# Altium integrated library TPS763.IntLib: 57 symbols
Pins are listed as number, name and electrical type; pins without a type are passive.

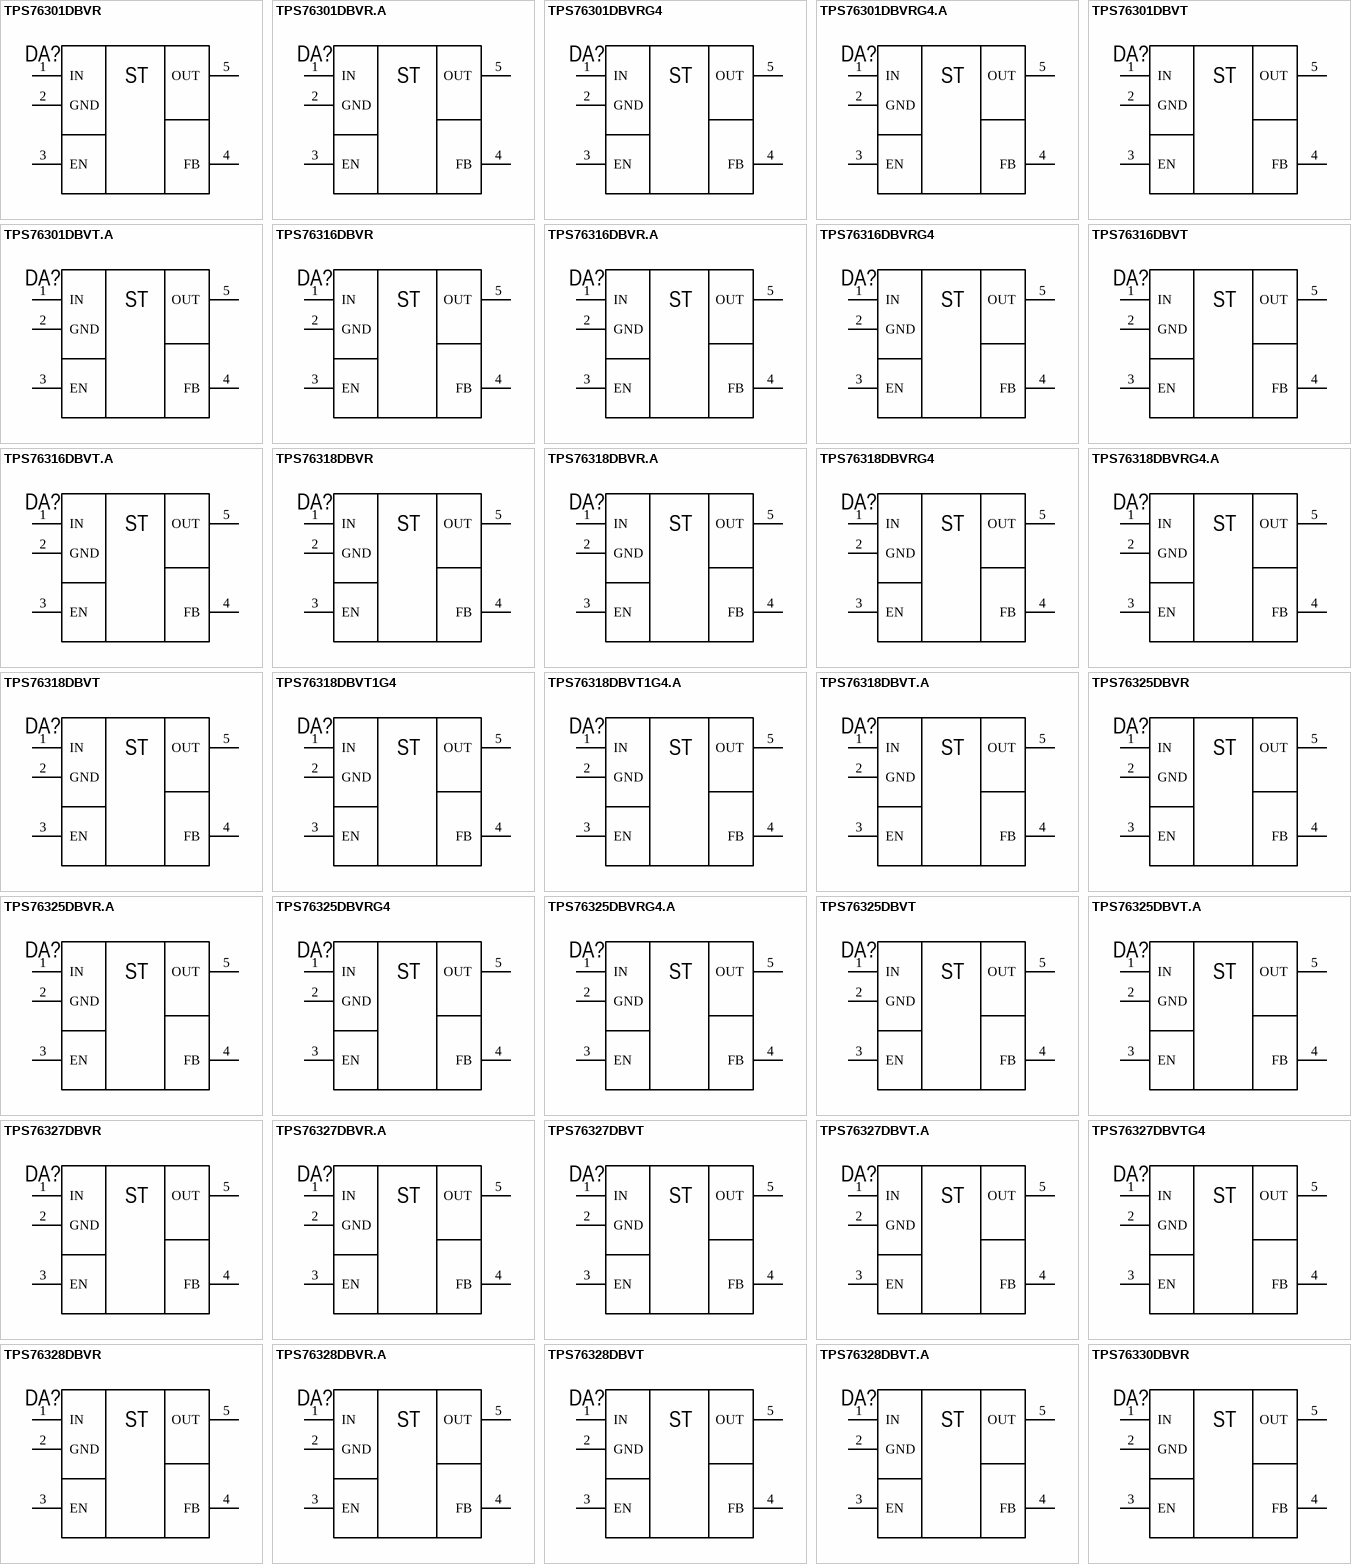
[diagram p0: symbols TPS76301DBVR to TPS76330DBVR]

## TPS76301DBVR
designator DA?  (value not drawn)
150mA, 10V, Low-Dropout Voltage Regulator
footprint DBV0005A (SOT-23, 5-Leads, Body 3.00x1.75 mm, IPC Medium Density)
pins: 1 IN, 2 GND, 3 EN, 4 FB, 5 OUT
text: ST

## TPS76301DBVR.A
designator DA?  (value not drawn)
150mA, 10V, Low-Dropout Voltage Regulator
footprint DBV0005A (SOT-23, 5-Leads, Body 3.00x1.75 mm, IPC Medium Density)
pins: 1 IN, 2 GND, 3 EN, 4 FB, 5 OUT
text: ST

## TPS76301DBVRG4
designator DA?  (value not drawn)
150mA, 10V, Low-Dropout Voltage Regulator
footprint DBV0005A (SOT-23, 5-Leads, Body 3.00x1.75 mm, IPC Medium Density)
pins: 1 IN, 2 GND, 3 EN, 4 FB, 5 OUT
text: ST

## TPS76301DBVRG4.A
designator DA?  (value not drawn)
150mA, 10V, Low-Dropout Voltage Regulator
footprint DBV0005A (SOT-23, 5-Leads, Body 3.00x1.75 mm, IPC Medium Density)
pins: 1 IN, 2 GND, 3 EN, 4 FB, 5 OUT
text: ST

## TPS76301DBVT
designator DA?  (value not drawn)
150mA, 10V, Low-Dropout Voltage Regulator
footprint DBV0005A (SOT-23, 5-Leads, Body 3.00x1.75 mm, IPC Medium Density)
pins: 1 IN, 2 GND, 3 EN, 4 FB, 5 OUT
text: ST

## TPS76301DBVT.A
designator DA?  (value not drawn)
150mA, 10V, Low-Dropout Voltage Regulator
footprint DBV0005A (SOT-23, 5-Leads, Body 3.00x1.75 mm, IPC Medium Density)
pins: 1 IN, 2 GND, 3 EN, 4 FB, 5 OUT
text: ST

## TPS76316DBVR
designator DA?  (value not drawn)
150mA, 10V, Low-Dropout Voltage Regulator
footprint DBV0005A (SOT-23, 5-Leads, Body 3.00x1.75 mm, IPC Medium Density)
pins: 1 IN, 2 GND, 3 EN, 4 FB, 5 OUT
text: ST

## TPS76316DBVR.A
designator DA?  (value not drawn)
150mA, 10V, Low-Dropout Voltage Regulator
footprint DBV0005A (SOT-23, 5-Leads, Body 3.00x1.75 mm, IPC Medium Density)
pins: 1 IN, 2 GND, 3 EN, 4 FB, 5 OUT
text: ST

## TPS76316DBVRG4
designator DA?  (value not drawn)
150mA, 10V, Low-Dropout Voltage Regulator
footprint DBV0005A (SOT-23, 5-Leads, Body 3.00x1.75 mm, IPC Medium Density)
pins: 1 IN, 2 GND, 3 EN, 4 FB, 5 OUT
text: ST

## TPS76316DBVT
designator DA?  (value not drawn)
150mA, 10V, Low-Dropout Voltage Regulator
footprint DBV0005A (SOT-23, 5-Leads, Body 3.00x1.75 mm, IPC Medium Density)
pins: 1 IN, 2 GND, 3 EN, 4 FB, 5 OUT
text: ST

## TPS76316DBVT.A
designator DA?  (value not drawn)
150mA, 10V, Low-Dropout Voltage Regulator
footprint DBV0005A (SOT-23, 5-Leads, Body 3.00x1.75 mm, IPC Medium Density)
pins: 1 IN, 2 GND, 3 EN, 4 FB, 5 OUT
text: ST

## TPS76318DBVR
designator DA?  (value not drawn)
150mA, 10V, Low-Dropout Voltage Regulator
footprint DBV0005A (SOT-23, 5-Leads, Body 3.00x1.75 mm, IPC Medium Density)
pins: 1 IN, 2 GND, 3 EN, 4 FB, 5 OUT
text: ST

## TPS76318DBVR.A
designator DA?  (value not drawn)
150mA, 10V, Low-Dropout Voltage Regulator
footprint DBV0005A (SOT-23, 5-Leads, Body 3.00x1.75 mm, IPC Medium Density)
pins: 1 IN, 2 GND, 3 EN, 4 FB, 5 OUT
text: ST

## TPS76318DBVRG4
designator DA?  (value not drawn)
150mA, 10V, Low-Dropout Voltage Regulator
footprint DBV0005A (SOT-23, 5-Leads, Body 3.00x1.75 mm, IPC Medium Density)
pins: 1 IN, 2 GND, 3 EN, 4 FB, 5 OUT
text: ST

## TPS76318DBVRG4.A
designator DA?  (value not drawn)
150mA, 10V, Low-Dropout Voltage Regulator
footprint DBV0005A (SOT-23, 5-Leads, Body 3.00x1.75 mm, IPC Medium Density)
pins: 1 IN, 2 GND, 3 EN, 4 FB, 5 OUT
text: ST

## TPS76318DBVT
designator DA?  (value not drawn)
150mA, 10V, Low-Dropout Voltage Regulator
footprint DBV0005A (SOT-23, 5-Leads, Body 3.00x1.75 mm, IPC Medium Density)
pins: 1 IN, 2 GND, 3 EN, 4 FB, 5 OUT
text: ST

## TPS76318DBVT1G4
designator DA?  (value not drawn)
150mA, 10V, Low-Dropout Voltage Regulator
footprint DBV0005A (SOT-23, 5-Leads, Body 3.00x1.75 mm, IPC Medium Density)
pins: 1 IN, 2 GND, 3 EN, 4 FB, 5 OUT
text: ST

## TPS76318DBVT1G4.A
designator DA?  (value not drawn)
150mA, 10V, Low-Dropout Voltage Regulator
footprint DBV0005A (SOT-23, 5-Leads, Body 3.00x1.75 mm, IPC Medium Density)
pins: 1 IN, 2 GND, 3 EN, 4 FB, 5 OUT
text: ST

## TPS76318DBVT.A
designator DA?  (value not drawn)
150mA, 10V, Low-Dropout Voltage Regulator
footprint DBV0005A (SOT-23, 5-Leads, Body 3.00x1.75 mm, IPC Medium Density)
pins: 1 IN, 2 GND, 3 EN, 4 FB, 5 OUT
text: ST

## TPS76325DBVR
designator DA?  (value not drawn)
150mA, 10V, Low-Dropout Voltage Regulator
footprint DBV0005A (SOT-23, 5-Leads, Body 3.00x1.75 mm, IPC Medium Density)
pins: 1 IN, 2 GND, 3 EN, 4 FB, 5 OUT
text: ST

## TPS76325DBVR.A
designator DA?  (value not drawn)
150mA, 10V, Low-Dropout Voltage Regulator
footprint DBV0005A (SOT-23, 5-Leads, Body 3.00x1.75 mm, IPC Medium Density)
pins: 1 IN, 2 GND, 3 EN, 4 FB, 5 OUT
text: ST

## TPS76325DBVRG4
designator DA?  (value not drawn)
150mA, 10V, Low-Dropout Voltage Regulator
footprint DBV0005A (SOT-23, 5-Leads, Body 3.00x1.75 mm, IPC Medium Density)
pins: 1 IN, 2 GND, 3 EN, 4 FB, 5 OUT
text: ST

## TPS76325DBVRG4.A
designator DA?  (value not drawn)
150mA, 10V, Low-Dropout Voltage Regulator
footprint DBV0005A (SOT-23, 5-Leads, Body 3.00x1.75 mm, IPC Medium Density)
pins: 1 IN, 2 GND, 3 EN, 4 FB, 5 OUT
text: ST

## TPS76325DBVT
designator DA?  (value not drawn)
150mA, 10V, Low-Dropout Voltage Regulator
footprint DBV0005A (SOT-23, 5-Leads, Body 3.00x1.75 mm, IPC Medium Density)
pins: 1 IN, 2 GND, 3 EN, 4 FB, 5 OUT
text: ST

## TPS76325DBVT.A
designator DA?  (value not drawn)
150mA, 10V, Low-Dropout Voltage Regulator
footprint DBV0005A (SOT-23, 5-Leads, Body 3.00x1.75 mm, IPC Medium Density)
pins: 1 IN, 2 GND, 3 EN, 4 FB, 5 OUT
text: ST

## TPS76327DBVR
designator DA?  (value not drawn)
150mA, 10V, Low-Dropout Voltage Regulator
footprint DBV0005A (SOT-23, 5-Leads, Body 3.00x1.75 mm, IPC Medium Density)
pins: 1 IN, 2 GND, 3 EN, 4 FB, 5 OUT
text: ST

## TPS76327DBVR.A
designator DA?  (value not drawn)
150mA, 10V, Low-Dropout Voltage Regulator
footprint DBV0005A (SOT-23, 5-Leads, Body 3.00x1.75 mm, IPC Medium Density)
pins: 1 IN, 2 GND, 3 EN, 4 FB, 5 OUT
text: ST

## TPS76327DBVT
designator DA?  (value not drawn)
150mA, 10V, Low-Dropout Voltage Regulator
footprint DBV0005A (SOT-23, 5-Leads, Body 3.00x1.75 mm, IPC Medium Density)
pins: 1 IN, 2 GND, 3 EN, 4 FB, 5 OUT
text: ST

## TPS76327DBVT.A
designator DA?  (value not drawn)
150mA, 10V, Low-Dropout Voltage Regulator
footprint DBV0005A (SOT-23, 5-Leads, Body 3.00x1.75 mm, IPC Medium Density)
pins: 1 IN, 2 GND, 3 EN, 4 FB, 5 OUT
text: ST

## TPS76327DBVTG4
designator DA?  (value not drawn)
150mA, 10V, Low-Dropout Voltage Regulator
footprint DBV0005A (SOT-23, 5-Leads, Body 3.00x1.75 mm, IPC Medium Density)
pins: 1 IN, 2 GND, 3 EN, 4 FB, 5 OUT
text: ST

## TPS76328DBVR
designator DA?  (value not drawn)
150mA, 10V, Low-Dropout Voltage Regulator
footprint DBV0005A (SOT-23, 5-Leads, Body 3.00x1.75 mm, IPC Medium Density)
pins: 1 IN, 2 GND, 3 EN, 4 FB, 5 OUT
text: ST

## TPS76328DBVR.A
designator DA?  (value not drawn)
150mA, 10V, Low-Dropout Voltage Regulator
footprint DBV0005A (SOT-23, 5-Leads, Body 3.00x1.75 mm, IPC Medium Density)
pins: 1 IN, 2 GND, 3 EN, 4 FB, 5 OUT
text: ST

## TPS76328DBVT
designator DA?  (value not drawn)
150mA, 10V, Low-Dropout Voltage Regulator
footprint DBV0005A (SOT-23, 5-Leads, Body 3.00x1.75 mm, IPC Medium Density)
pins: 1 IN, 2 GND, 3 EN, 4 FB, 5 OUT
text: ST

## TPS76328DBVT.A
designator DA?  (value not drawn)
150mA, 10V, Low-Dropout Voltage Regulator
footprint DBV0005A (SOT-23, 5-Leads, Body 3.00x1.75 mm, IPC Medium Density)
pins: 1 IN, 2 GND, 3 EN, 4 FB, 5 OUT
text: ST

## TPS76330DBVR
designator DA?  (value not drawn)
150mA, 10V, Low-Dropout Voltage Regulator
footprint DBV0005A (SOT-23, 5-Leads, Body 3.00x1.75 mm, IPC Medium Density)
pins: 1 IN, 2 GND, 3 EN, 4 FB, 5 OUT
text: ST

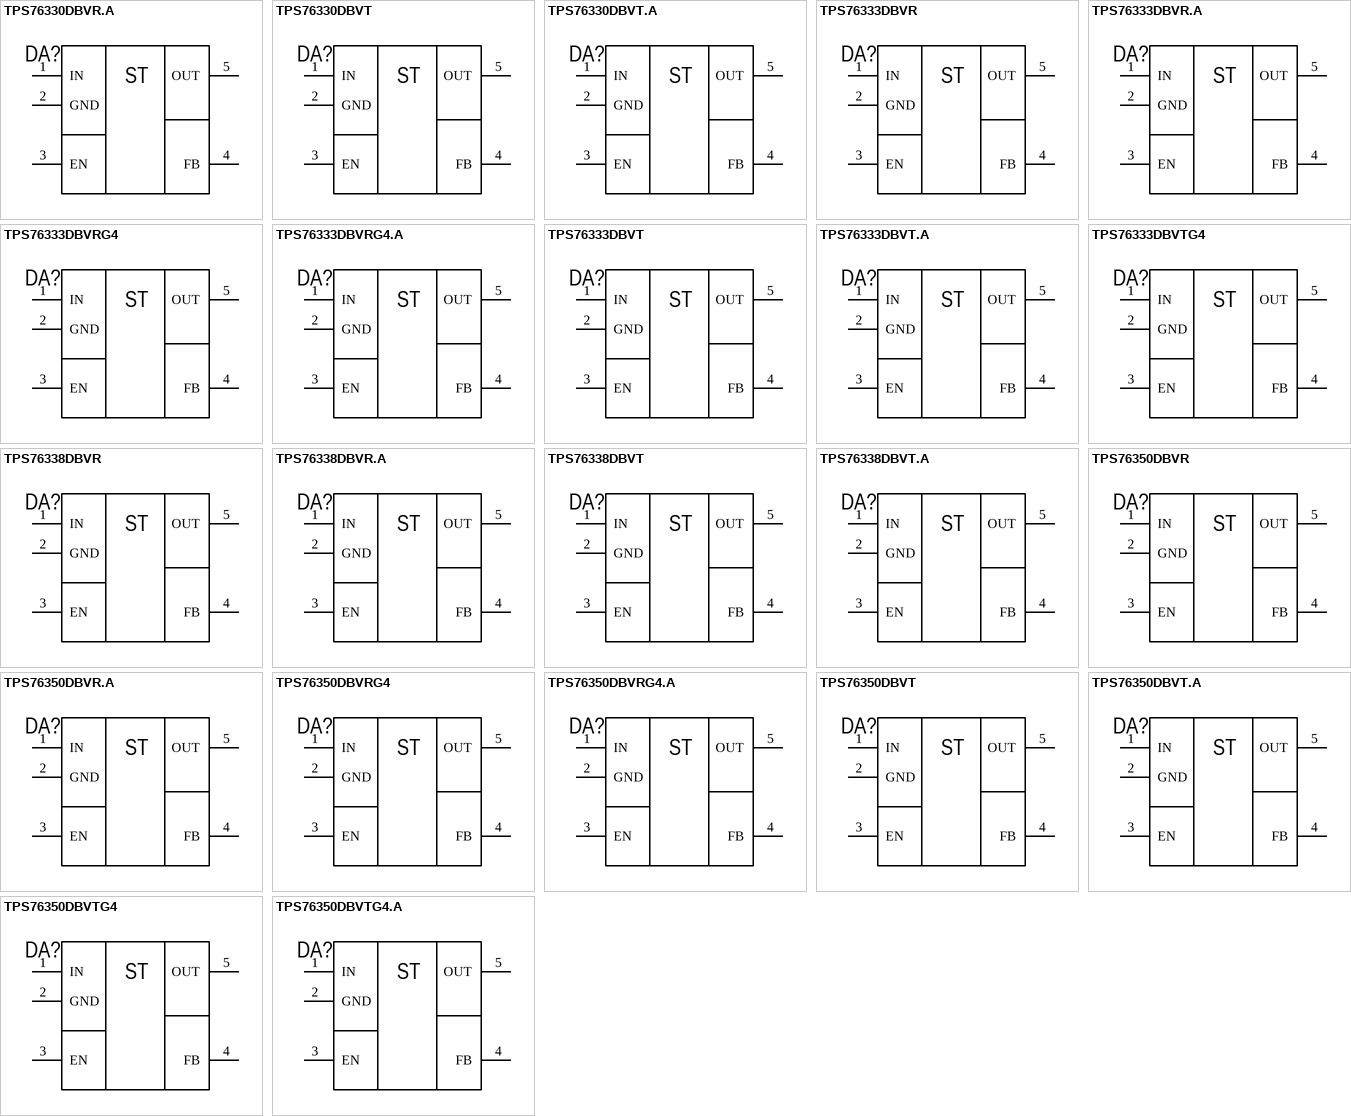
[diagram p1: symbols TPS76330DBVR.A to TPS76350DBVTG4.A]

## TPS76330DBVR.A
designator DA?  (value not drawn)
150mA, 10V, Low-Dropout Voltage Regulator
footprint DBV0005A (SOT-23, 5-Leads, Body 3.00x1.75 mm, IPC Medium Density)
pins: 1 IN, 2 GND, 3 EN, 4 FB, 5 OUT
text: ST

## TPS76330DBVT
designator DA?  (value not drawn)
150mA, 10V, Low-Dropout Voltage Regulator
footprint DBV0005A (SOT-23, 5-Leads, Body 3.00x1.75 mm, IPC Medium Density)
pins: 1 IN, 2 GND, 3 EN, 4 FB, 5 OUT
text: ST

## TPS76330DBVT.A
designator DA?  (value not drawn)
150mA, 10V, Low-Dropout Voltage Regulator
footprint DBV0005A (SOT-23, 5-Leads, Body 3.00x1.75 mm, IPC Medium Density)
pins: 1 IN, 2 GND, 3 EN, 4 FB, 5 OUT
text: ST

## TPS76333DBVR
designator DA?  (value not drawn)
150mA, 10V, Low-Dropout Voltage Regulator
footprint DBV0005A (SOT-23, 5-Leads, Body 3.00x1.75 mm, IPC Medium Density)
pins: 1 IN, 2 GND, 3 EN, 4 FB, 5 OUT
text: ST

## TPS76333DBVR.A
designator DA?  (value not drawn)
150mA, 10V, Low-Dropout Voltage Regulator
footprint DBV0005A (SOT-23, 5-Leads, Body 3.00x1.75 mm, IPC Medium Density)
pins: 1 IN, 2 GND, 3 EN, 4 FB, 5 OUT
text: ST

## TPS76333DBVRG4
designator DA?  (value not drawn)
150mA, 10V, Low-Dropout Voltage Regulator
footprint DBV0005A (SOT-23, 5-Leads, Body 3.00x1.75 mm, IPC Medium Density)
pins: 1 IN, 2 GND, 3 EN, 4 FB, 5 OUT
text: ST

## TPS76333DBVRG4.A
designator DA?  (value not drawn)
150mA, 10V, Low-Dropout Voltage Regulator
footprint DBV0005A (SOT-23, 5-Leads, Body 3.00x1.75 mm, IPC Medium Density)
pins: 1 IN, 2 GND, 3 EN, 4 FB, 5 OUT
text: ST

## TPS76333DBVT
designator DA?  (value not drawn)
150mA, 10V, Low-Dropout Voltage Regulator
footprint DBV0005A (SOT-23, 5-Leads, Body 3.00x1.75 mm, IPC Medium Density)
pins: 1 IN, 2 GND, 3 EN, 4 FB, 5 OUT
text: ST

## TPS76333DBVT.A
designator DA?  (value not drawn)
150mA, 10V, Low-Dropout Voltage Regulator
footprint DBV0005A (SOT-23, 5-Leads, Body 3.00x1.75 mm, IPC Medium Density)
pins: 1 IN, 2 GND, 3 EN, 4 FB, 5 OUT
text: ST

## TPS76333DBVTG4
designator DA?  (value not drawn)
150mA, 10V, Low-Dropout Voltage Regulator
footprint DBV0005A (SOT-23, 5-Leads, Body 3.00x1.75 mm, IPC Medium Density)
pins: 1 IN, 2 GND, 3 EN, 4 FB, 5 OUT
text: ST

## TPS76338DBVR
designator DA?  (value not drawn)
150mA, 10V, Low-Dropout Voltage Regulator
footprint DBV0005A (SOT-23, 5-Leads, Body 3.00x1.75 mm, IPC Medium Density)
pins: 1 IN, 2 GND, 3 EN, 4 FB, 5 OUT
text: ST

## TPS76338DBVR.A
designator DA?  (value not drawn)
150mA, 10V, Low-Dropout Voltage Regulator
footprint DBV0005A (SOT-23, 5-Leads, Body 3.00x1.75 mm, IPC Medium Density)
pins: 1 IN, 2 GND, 3 EN, 4 FB, 5 OUT
text: ST

## TPS76338DBVT
designator DA?  (value not drawn)
150mA, 10V, Low-Dropout Voltage Regulator
footprint DBV0005A (SOT-23, 5-Leads, Body 3.00x1.75 mm, IPC Medium Density)
pins: 1 IN, 2 GND, 3 EN, 4 FB, 5 OUT
text: ST

## TPS76338DBVT.A
designator DA?  (value not drawn)
150mA, 10V, Low-Dropout Voltage Regulator
footprint DBV0005A (SOT-23, 5-Leads, Body 3.00x1.75 mm, IPC Medium Density)
pins: 1 IN, 2 GND, 3 EN, 4 FB, 5 OUT
text: ST

## TPS76350DBVR
designator DA?  (value not drawn)
150mA, 10V, Low-Dropout Voltage Regulator
footprint DBV0005A (SOT-23, 5-Leads, Body 3.00x1.75 mm, IPC Medium Density)
pins: 1 IN, 2 GND, 3 EN, 4 FB, 5 OUT
text: ST

## TPS76350DBVR.A
designator DA?  (value not drawn)
150mA, 10V, Low-Dropout Voltage Regulator
footprint DBV0005A (SOT-23, 5-Leads, Body 3.00x1.75 mm, IPC Medium Density)
pins: 1 IN, 2 GND, 3 EN, 4 FB, 5 OUT
text: ST

## TPS76350DBVRG4
designator DA?  (value not drawn)
150mA, 10V, Low-Dropout Voltage Regulator
footprint DBV0005A (SOT-23, 5-Leads, Body 3.00x1.75 mm, IPC Medium Density)
pins: 1 IN, 2 GND, 3 EN, 4 FB, 5 OUT
text: ST

## TPS76350DBVRG4.A
designator DA?  (value not drawn)
150mA, 10V, Low-Dropout Voltage Regulator
footprint DBV0005A (SOT-23, 5-Leads, Body 3.00x1.75 mm, IPC Medium Density)
pins: 1 IN, 2 GND, 3 EN, 4 FB, 5 OUT
text: ST

## TPS76350DBVT
designator DA?  (value not drawn)
150mA, 10V, Low-Dropout Voltage Regulator
footprint DBV0005A (SOT-23, 5-Leads, Body 3.00x1.75 mm, IPC Medium Density)
pins: 1 IN, 2 GND, 3 EN, 4 FB, 5 OUT
text: ST

## TPS76350DBVT.A
designator DA?  (value not drawn)
150mA, 10V, Low-Dropout Voltage Regulator
footprint DBV0005A (SOT-23, 5-Leads, Body 3.00x1.75 mm, IPC Medium Density)
pins: 1 IN, 2 GND, 3 EN, 4 FB, 5 OUT
text: ST

## TPS76350DBVTG4
designator DA?  (value not drawn)
150mA, 10V, Low-Dropout Voltage Regulator
footprint DBV0005A (SOT-23, 5-Leads, Body 3.00x1.75 mm, IPC Medium Density)
pins: 1 IN, 2 GND, 3 EN, 4 FB, 5 OUT
text: ST

## TPS76350DBVTG4.A
designator DA?  (value not drawn)
150mA, 10V, Low-Dropout Voltage Regulator
footprint DBV0005A (SOT-23, 5-Leads, Body 3.00x1.75 mm, IPC Medium Density)
pins: 1 IN, 2 GND, 3 EN, 4 FB, 5 OUT
text: ST